# EAGLE library part BAS70VV (library diode-rp)
Silicon Schottky Diodes General-purpose diode for high-speed switching Source: BAS70_1PS7XSB70_SER_8.pdf
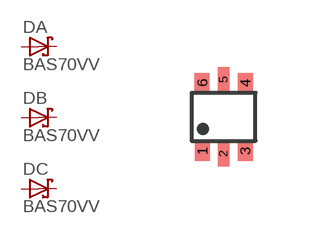
[diagram p6: symbol with the pads of SOT666; footprint SOT666]

Designator prefix D; gates A=SCHOTTKY B=SCHOTTKY C=SCHOTTKY

## BAS70VV  [SOT666]
1  A:A  pas
2  B:A  pas
3  C:A  pas
4  C:C  pas
5  B:C  pas
6  A:C  pas

## Footprint SOT666 (pad centres in mm)
SOT 666 Reflow soldering foorprint Source: Philips - BAS70_1PS7XSB70_SER_8.pdf
smd 0.375 x 0.5: 1 -0.537,-0.85; 3 0.538,-0.85; 4 0.538,0.849; 6 -0.538,0.85
smd 0.3 x 0.65: 2 0,-0.923; 5 0,0.925